# EAGLE library part PL2323HX-MOD (library shcustomlib)
PL2303 HX USB to Serial Adapter PL2303 HX IC based USB to Serial/UART Converter Module. The module operates at 5V and also provides a 3.3V regulated output.
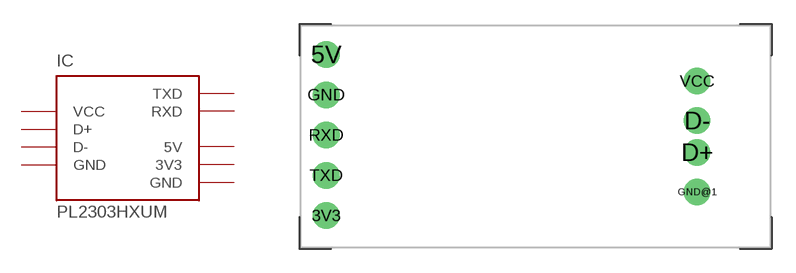
[diagram p4: symbol with the pads of PL2303HXMOD; footprint PL2303HXMOD]

Designator prefix IC

## PL2323HX-MOD  [PL2303HXMOD]
3V3  3V3
5V  5V
D+  D+
D-  D-
GND  GND
GND@1  GND
RXD  RXD
TXD  TXD
VCC  VCC

## Footprint PL2303HXMOD (pad centres in mm)
drill 1.016 pad 1.676: 3V3 -13.2,-5; 5V -13.2,5.16; D+ 10.2,-1.01; D- 10.2,0.99; GND -13.2,2.62; GND@1 10.2,-3.5; RXD -13.2,0.08; TXD -13.2,-2.46; VCC 10.2,3.48